# Altium schematic symbol library Schlib.SchLib: 39 symbols
Pins are listed as number, name and electrical type; pins without a type are passive.

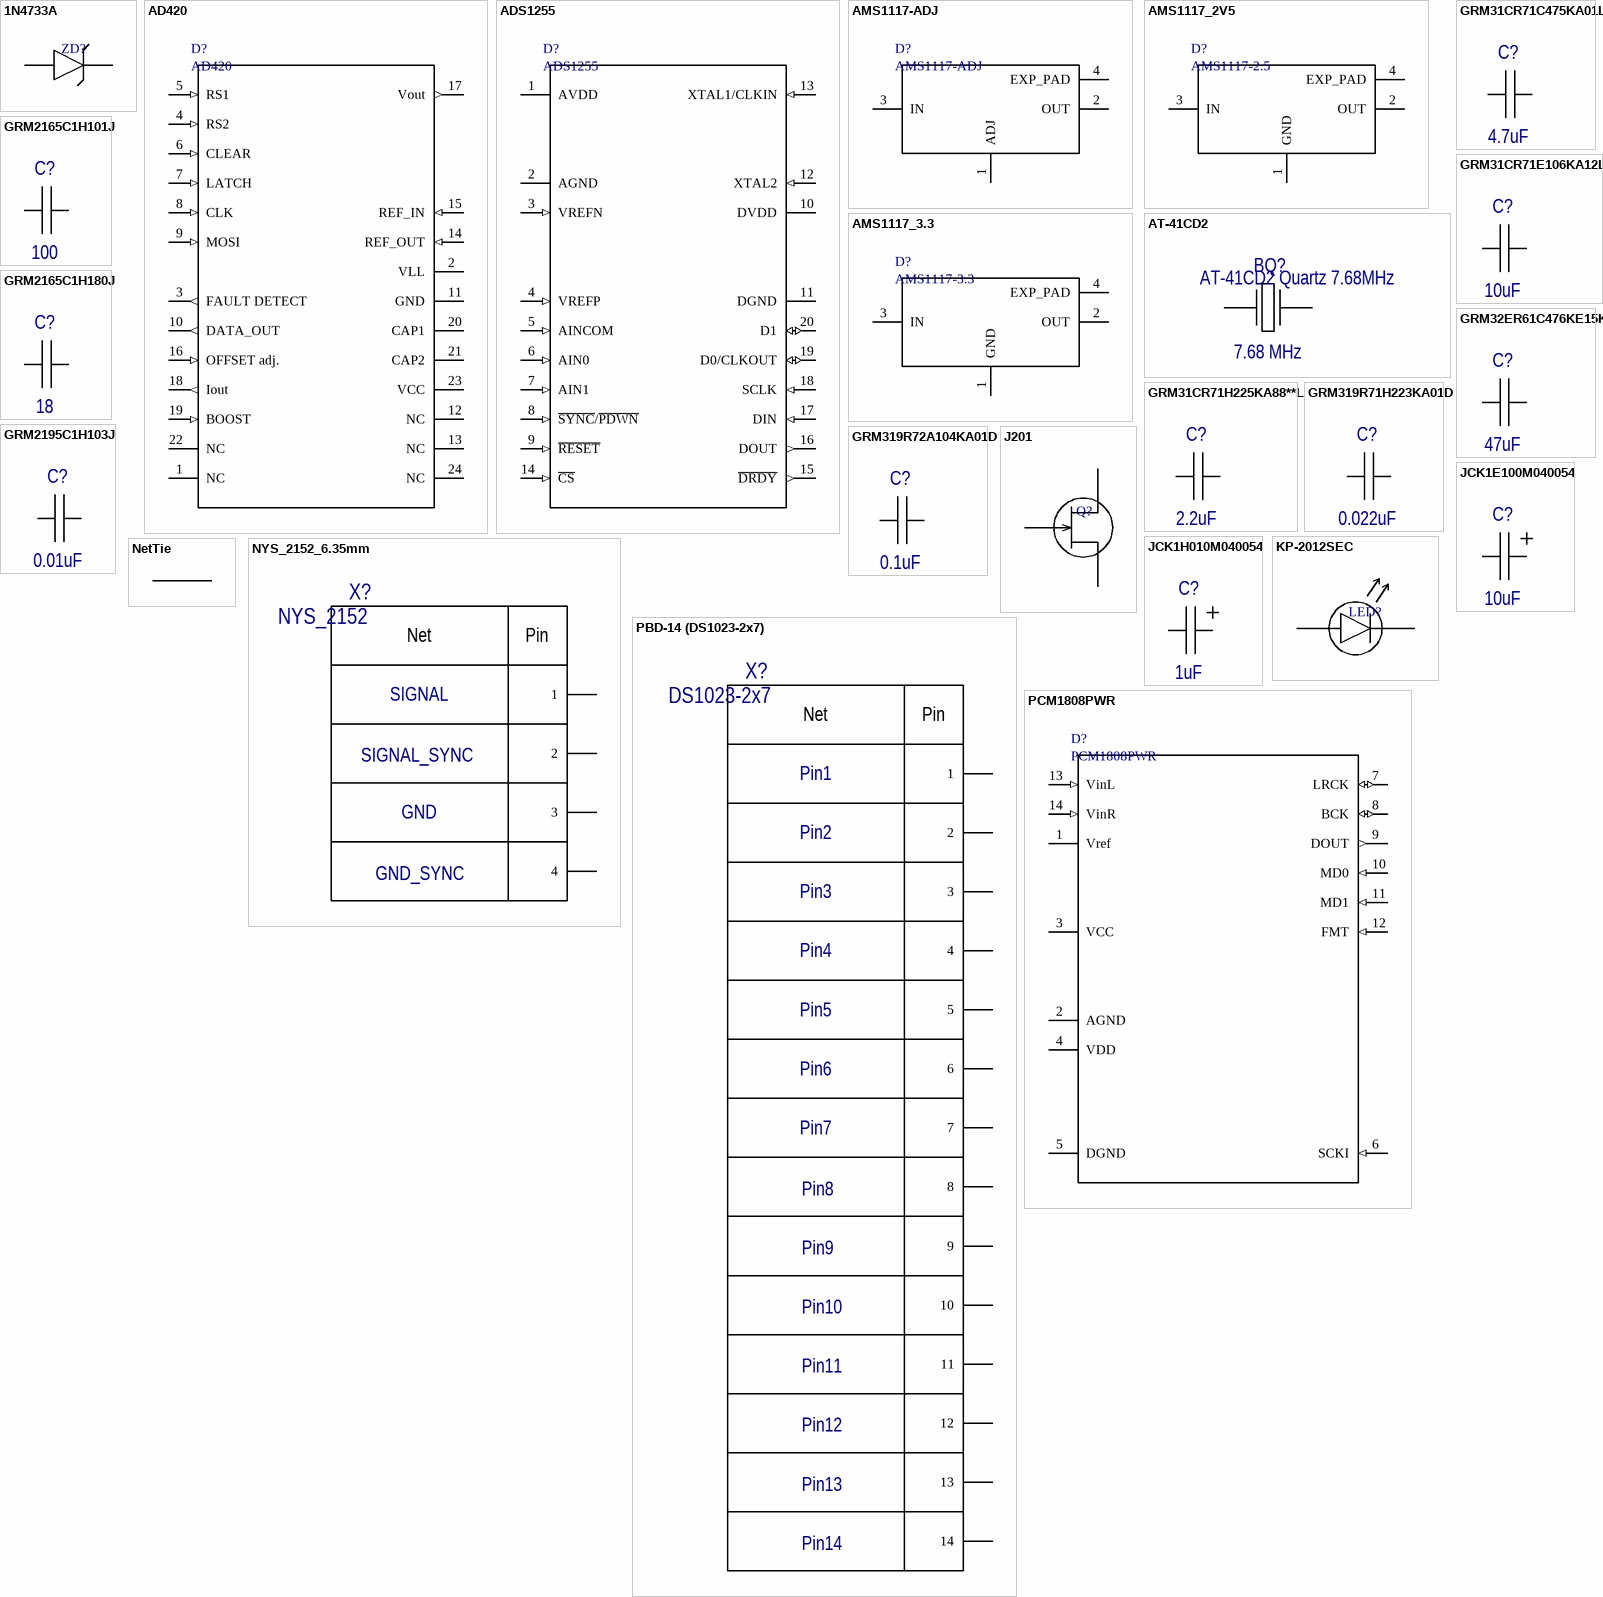
[diagram p0: symbols 1N4733A to PCM1808PWR]

## 1N4733A
designator ZD?  (value not drawn)
footprint DO-41 (500mil pitch)
pins: 1 A, 2 C

## AD420
designator D?
footprint DIP-24
pins: 1 NC, 2 VLL (power), 3 FAULT DETECT (out), 4 RS2 (in), 5 RS1 (in), 6 CLEAR (in), 7 LATCH (in), 8 CLK (in), 9 MOSI (in), 10 DATA_OUT (out), 11 GND (power), 12 NC, 13 NC, 14 REF_OUT (in), 15 REF_IN (in), 16 OFFSET adj. (in), 17 Vout (out), 18 Iout (out), 19 BOOST (in), 20 CAP1, 21 CAP2, 22 NC, 23 VCC (power), 24 NC

## ADS1255
designator D?
footprint SSOP-20 (SOP, 20-Leads, Body 7,20x5,30mm, Pitch 0,65mm, IPC High Density)
pins: 1 AVDD (power), 2 AGND (power), 3 VREFN (in), 4 VREFP (in), 5 AINCOM (in), 6 AIN0 (in), 7 AIN1 (in), 8 ~{SYNC}/~{PDWN} (in), 9 ~{RESET} (in), 10 DVDD (power), 11 DGND (power), 12 XTAL2 (in), 13 XTAL1/CLKIN (in), 14 ~{CS} (in), 15 ~{DRDY} (out), 16 DOUT (out), 17 DIN (in), 18 SCLK (in), 19 D0/CLKOUT (io), 20 D1 (io)

## AMS1117-ADJ
designator D?
footprint SOT223 (SOT223, 4-Leads, Body 6,51x7,00mm (avg), Pitch 2,30mm, IPC Low Density)
pins: 1 ADJ (power), 2 OUT (power), 3 IN (power), 4 EXP_PAD

## AMS1117_2V5
designator D?, comment AMS1117-2.5
footprint SOT223 (SOT223, 4-Leads, Body 6,51x7,00mm (avg), Pitch 2,30mm, IPC Low Density)
pins: 1 GND (power), 2 OUT (power), 3 IN (power), 4 EXP_PAD

## AMS1117_3.3
designator D?, comment AMS1117-3.3
footprint SOT223 (SOT223, 4-Leads, Body 6,51x7,00mm (avg), Pitch 2,30mm, IPC Low Density)
pins: 1 GND (power), 2 OUT (power), 3 IN (power), 4 EXP_PAD

## AT-41CD2
designator BQ?, comment AT-41CD2 Quartz 7.68MHz  value 7.68 MHz
AT-41CD2
footprint hc-49sm
pins: 1, 2

## GRM31CR71C475KA01L
designator C?, comment 4.7uF
SMD 1206 X7R 4.7uF 16V 10%; Model: *; Other: *; Value: 4.7uF
footprint C1206 (Chip Capacitor, 2-Leads, Body 3,10x1,60mm, IPC Low Density)
pins: 1, 2

## GRM31CR71E106KA12L*
designator C?, comment 10uF
SMD 10 uF X7R 10% 25V 1206; Model: *; Other: *; Value: 10uF
footprint C1206 (Chip Capacitor, 2-Leads, Body 3,10x1,60mm, IPC Low Density)
pins: 1, 2

## GRM31CR71H225KA88**L
designator C?, comment 2.2uF
SMD 2.2мкФ,X7R 50В, 10%, 1206; Model: *; Other: *; Value: 2.2uF
footprint C1206 (Chip Capacitor, 2-Leads, Body 3,10x1,60mm, IPC Low Density)
pins: 1, 2

## GRM32ER61C476KE15K
designator C?, comment 47uF
SMD 1210 X5R 47uF 16V 10%; Model: *; Other: *; Value: 47uF
footprint C1210
pins: 1, 2

## GRM319R71H223KA01D
designator C?, comment 0.022uF
SMD 0.022uF X7R 50V 10% 1206 (22nF); Model: *; Other: *; Value: 0.022uF
footprint C1206 (Chip Capacitor, 2-Leads, Body 3,10x1,60mm, IPC Low Density)
pins: 1, 2

## GRM319R72A104KA01D
designator C?, comment 0.1uF
SMD 0.1 uF X7R 10%100V 1206; Model: *; Other: *; Value: 0.1uF
footprint C1206 (Chip Capacitor, 2-Leads, Body 3,10x1,60mm, IPC Low Density)
pins: 1, 2

## GRM2165C1H101J
designator C?, comment 100
SMD 100pF NPO 50V 5% 0805; Model: *; Other: *; Value: 100
footprint C0805
pins: 1, 2

## GRM2165C1H180J
designator C?, comment 18
SMD 18pF NPO 50V 5% 0805; Model: *; Other: *; Value: 18
footprint C0805
pins: 1, 2

## GRM2195C1H103J
designator C?, comment 0.01uF
0.01 uF NPO 50V 5% 0805; Model: *; Other: *; Value: 0.01uF
footprint C0805
pins: 1, 2

## J201
designator Q?  (value not drawn)
footprint SOT23 (SOT23, 3-Leads, Body 2,90x2,30mm, Pitch 0,95mm, IPC Low Density)
pins: 1 D, 2 S, 3 G

## JCK1E100M040054
designator C?, comment 10uF
ECAP SMD, 10uF, 25 V, 105°C, 20% 4x5.4mm; Model: *; Other: *; Value: 10uF
footprint SMD_CAP_4x5.4 (Aluminum Electrolytic Capacitor, Body 4,30x4,30x5,80mm, IPC Low Density)
pins: 1 Pos, 2 Neg

## JCK1H010M040054
designator C?, comment 1uF
ECAP SMD, 1 uF, 50V, 105°C, 20% 4x5.4mm; Model: *; Other: *; Value: 1uF
footprint SMD_CAP_4x5.4 (Aluminum Electrolytic Capacitor, Body 4,30x4,30x5,80mm, IPC Low Density)
pins: 1 Pos, 2 Neg

## KP-2012SEC
designator LED?  (value not drawn)
footprint 2.0x1.25mm_SMD_CHIP_LED
pins: 1 A, 2 C

## NetTie
designator *  (value not drawn)  (net tie, no BOM)
footprint 0805_NetTie
pins: 1 *, 2  

## NYS_2152_6.35mm
designator X?, comment NYS_2152  4: GND_SYNC  2: SIGNAL_SYNC  1: SIGNAL  3: GND
Jack 6.35mm MONO
footprint NYS_2152_6.35mm
pins: 1, 2, 3, 4
text: Net; Pin

## PBD-14 (DS1023-2x7)
designator X?, comment DS1023-2x7  9: Pin9  14: Pin14  13: Pin13  12: Pin12  11: Pin11  10: Pin10  8: Pin8  1: Pin1  2: Pin2  3: Pin3  4: Pin4  5: Pin5  6: Pin6  7: Pin7
PBD-14 (DS1023-2x7)
footprint DS1023-2x7
pins: 1, 2, 3, 4, 5, 6, 7, 8, 9, 10, 11, 12, 13, 14
text: Net; Pin

## PCM1808PWR
designator D?
footprint TSSOP-14 (TSOP, 14-Leads, Body 5,00x4,40mm, Pitch 0,65mm, IPC Low Density)
pins: 1 Vref (power), 2 AGND (power), 3 VCC (power), 4 VDD (power), 5 DGND (power), 6 SCKI (in), 7 LRCK (io), 8 BCK (io), 9 DOUT (out), 10 MD0 (in), 11 MD1 (in), 12 FMT (in), 13 VinL (in), 14 VinR (in)

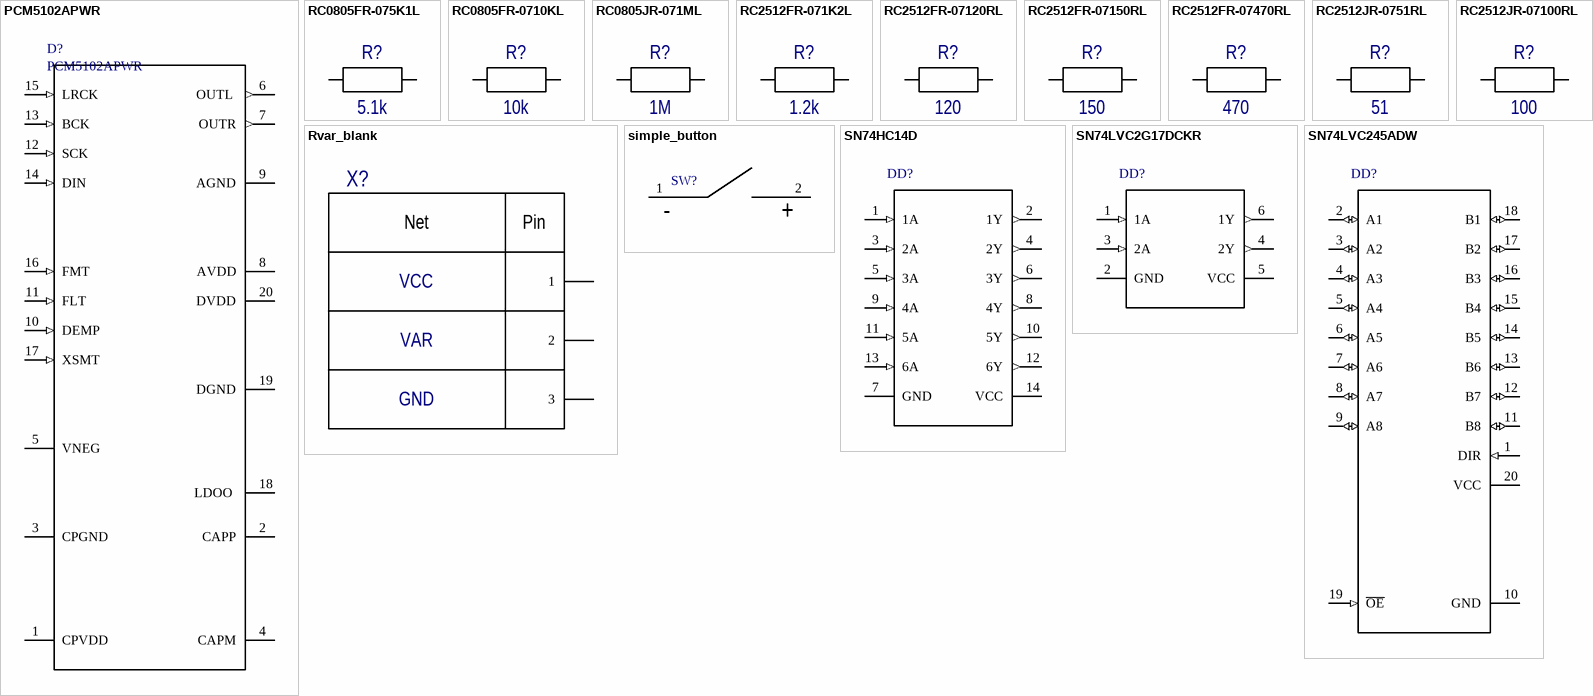
[diagram p1: symbols PCM5102APWR to SN74LVC245ADW]

## PCM5102APWR
designator D?
footprint SSOP-20 (SOP, 20-Leads, Body 7,20x5,30mm, Pitch 0,65mm, IPC High Density)
pins: 1 CPVDD (power), 2 CAPP, 3 CPGND (power), 4 CAPM, 5 VNEG, 6 OUTL  (out), 7 OUTR (out), 8 AVDD (power), 9 AGND (power), 10 DEMP (in), 11 FLT (in), 12 SCK (in), 13 BCK (in), 14 DIN (in), 15 LRCK (in), 16 FMT (in), 17 XSMT (in), 18 LDOO , 19 DGND (power), 20 DVDD (power)

## RC0805FR-075K1L
designator R?, comment 5.1k
Model: RC0805FR; Other: *; Value: 5.1k
footprint R0805
pins: 1, 2

## RC0805FR-0710KL
designator R?, comment 10k
Model: RC0805FR; Other: *; Value: 10k
footprint R2512
pins: 1, 2

## RC0805JR-071ML
designator R?, comment 1M
Model: RC0805JR; Other: *; Value: 1M
footprint R0805
pins: 1, 2

## RC2512FR-071K2L
designator R?, comment 1.2k
Model: RC2512FR; Other: *; Value: 1.2k
footprint R2512
pins: 1, 2

## RC2512FR-07120RL
designator R?, comment 120
Model: RC2512FR; Other: *; Value: 120
footprint R2512
pins: 1, 2

## RC2512FR-07150RL
designator R?, comment 150
Model: RC2512FR; Other: *; Value: 150
footprint R2512
pins: 1, 2

## RC2512FR-07470RL
designator R?, comment 470
Model: RC2512FR; Other: *; Value: 470
footprint R2512
pins: 1, 2

## RC2512JR-0751RL
designator R?, comment 51
Model: RC2512JR; Other: *; Value: 51
footprint R2512
pins: 1, 2

## RC2512JR-07100RL
designator R?, comment 100
Model: RC2512JR; Other: *; Value: 100
footprint R2512
pins: 1, 2

## Rvar_blank
designator X?, comment 1: VCC  2: VAR  3: GND  (hidden comment: 200mil pitch)
footprint R_var (200mil pitch)
pins: 1, 2, 3
text: Net; Pin

## simple_button
designator SW?  (value not drawn)
footprint BUTTON_template (Button_in)
pins: 1, 2
text: -; +

## SN74HC14D
designator DD?, comment SCHMITT-TRIGGER INVERTER  (value not drawn)
footprint SOIC-14 (SOIC, 14-Leads, Body 8,65x3,90mm, Pitch 1,27mm, IPC Low Density)
pins: 1 1A (in), 2 1Y (out), 3 2A (in), 4 2Y (out), 5 3A (in), 6 3Y (out), 7 GND (power), 8 4Y (out), 9 4A (in), 10 5Y (out), 11 5A (in), 12 6Y (out), 13 6A (in), 14 VCC (power)

## SN74LVC2G17DCKR
designator DD?  (value not drawn)
SN74LVC2G17DCKR, logic, 4-state, [SC70-6]
footprint SC70-6
pins: 1 1A (in), 2 GND (power), 3 2A (in), 4 2Y (out), 5 VCC (power), 6 1Y (out)

## SN74LVC245ADW
designator DD?, comment 8-ch transceiver  (value not drawn)
footprint SOIC-20
pins: 1 DIR (in), 2 A1 (io), 3 A2 (io), 4 A3 (io), 5 A4 (io), 6 A5 (io), 7 A6 (io), 8 A7 (io), 9 A8 (io), 10 GND (power), 11 B8 (io), 12 B7 (io), 13 B6 (io), 14 B5 (io), 15 B4 (io), 16 B3 (io), 17 B2 (io), 18 B1 (io), 19 ~{OE} (in), 20 VCC (power)